# EAGLE library part XC17S10 (library Xilinx)
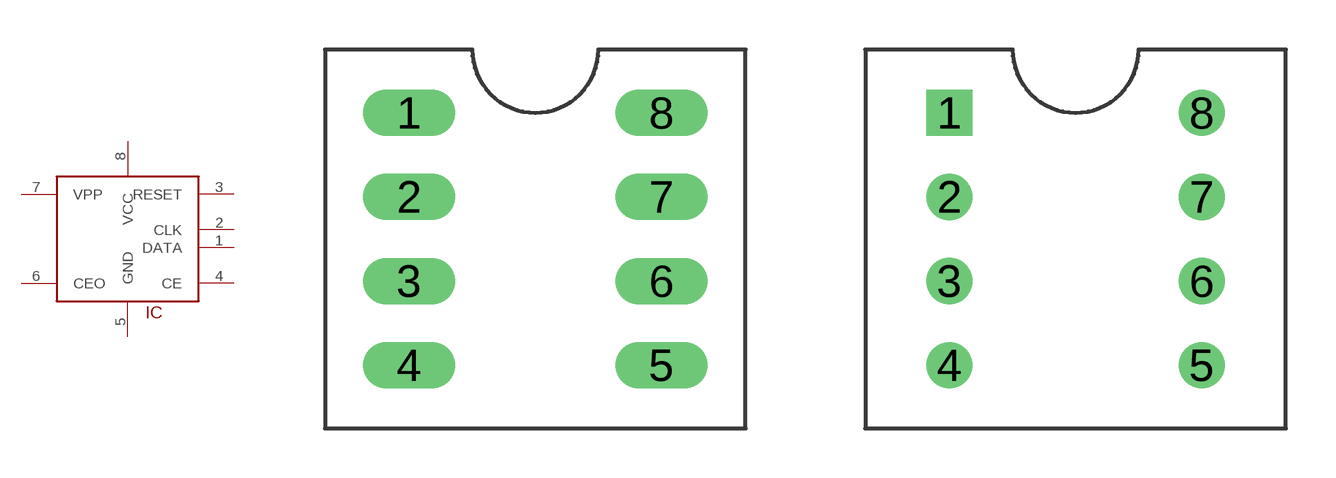
[diagram p5: symbol with the pads of DIP-8; footprints DIP-8, DIP-8C]

Designator prefix IC

## XC17S10-PD8  [DIP-8]
1  DATA
2  CLK
3  RESET
4  CE
5  GND  pwr
6  CEO
7  VPP
8  VCC  pwr

## XC17S10-PD8C  [DIP-8C]
Pads as for DIP-8

## Footprint DIP-8 (pad centres in mm)
drill 0.889 long: 1 -3.81,3.81; 2 -3.81,1.27; 3 -3.81,-1.27; 4 -3.81,-3.81; 5 3.81,-3.81; 6 3.81,-1.27; 7 3.81,1.27; 8 3.81,3.81

## Footprint DIP-8C (pad centres in mm)
drill 0.889 square: 1 -3.81,3.81
drill 0.889 round: 2 -3.81,1.27; 3 -3.81,-1.27; 4 -3.81,-3.81; 5 3.81,-3.81; 6 3.81,-1.27; 7 3.81,1.27; 8 3.81,3.81